# Altium footprint library MOLEX -532610671.PcbLib: 1 footprints
Each footprint in its own frame and in the unit in brackets; x right, y up, seen from the top. Pads: shape width x height; smd on the part's side, far side on the other; paste and mask are expansions set on the pad; w line width, h text height; cw(c..) or ccw(c..) is an arc to the next point about the centre after c.
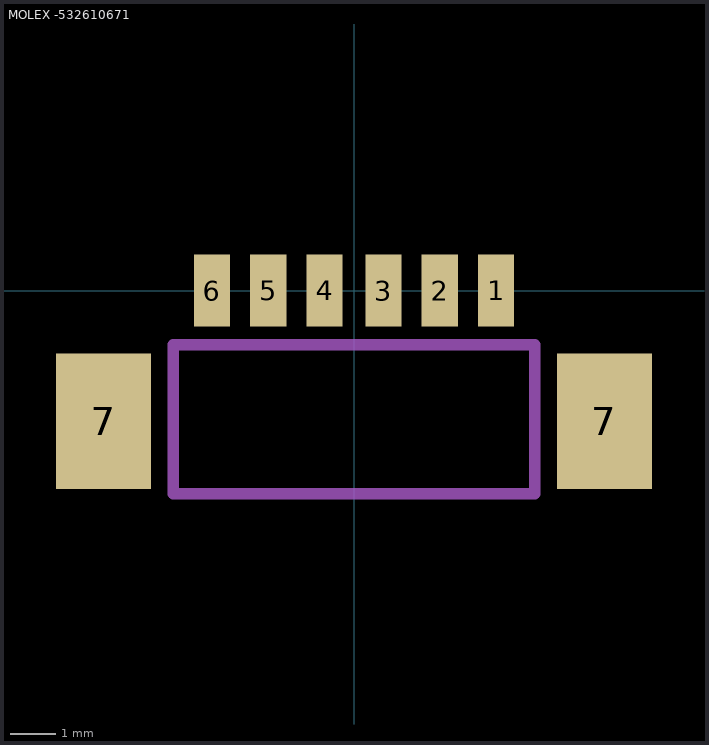
[diagram p0: the footprint, top view; thin cyan lines are the x and y axes]

## MOLEX -532610671 [mm]
pads (8):
  rect 0.8x1.6 smd: 1(3.15,0) 2(1.9,0) 3(0.65,0) 4(-0.65,0) 5(-1.9,0) 6(-3.15,0)
  rect 2.1x3 smd: 7(-5.55,-2.9) 7(5.55,-2.9)
Top Comp Body:
  lines w0.254: -4,-4.5 -4,-1.2 4,-1.2 4,-4.5 -4,-4.5
3D body "532610671.stp": height 3.4, standoff 0, extent -6.325,-4.6 6.325,0.6